# EAGLE library part SWITCH-DPDT (library Lin-Temp-Controller)
DPDT Switch
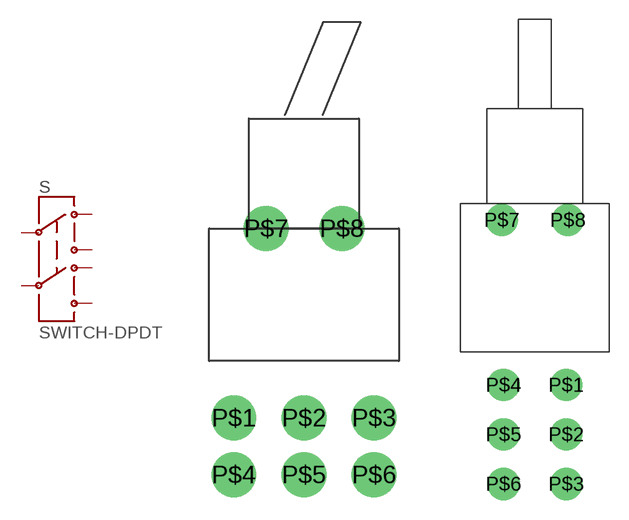
[diagram p5: symbol with the pads of E-SWITCH-100-M6; footprints E-SWITCH-100-M6, E-SWITCH-100-M7]

Designator prefix S

## SWITCH-DPDT/HOR (DIGIKEY: EG2404-ND; MFR_PN: 100DP1T2B4M6QE)  [E-SWITCH-100-M6]
P$1  1
P$2  2
P$3  3
P$4  4
P$5  5
P$6  6

## SWITCH-DPDT/VER (DIGIKEY: 100DP1T2B4M7QE-ND; MFR_PN: 100DP1T2B4M7QE)  [E-SWITCH-100-M7]
Pads as for E-SWITCH-100-M6

## Footprint E-SWITCH-100-M6 (pad centres in mm)
drill 2: P$1 -4.699,-6.35; P$2 0,-6.35; P$3 4.699,-6.35; P$4 -4.699,-10.16; P$5 0,-10.16; P$6 4.699,-10.16; P$7 -2.54,6.35; P$8 2.54,6.35

## Footprint E-SWITCH-100-M7 (pad centres in mm)
drill 1.651: P$1 2.413,0; P$2 2.413,-3.81; P$3 2.413,-7.62; P$4 -2.413,0; P$5 -2.413,-3.81; P$6 -2.413,-7.62; P$7 -2.54,12.7; P$8 2.54,12.7